# Altium schematic symbol library SnapEDAsch.SchLib: 1 symbol
Pins are listed as number, name and electrical type; pins without a type are passive.

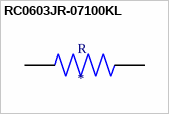
[diagram p0: symbol RC0603JR-07100KL]

## RC0603JR-07100KL
designator R
100 kOhms Â±5% 0.1W, 1/10W Chip Resistor 0603 _1608 Metric_ Moisture Resistant Thick Film; MF: Yageo; MP: RC0603JR-07100KL; Digi-Key_Purchase_URL: https://www.digikey.com.tr/product-detail/en/yageo/RC0603JR-07100KL/311-100KGRCT-ND/729645?utm_source=snapeda&utm_medium=aggregator&utm_campaign=symbol; Value: *; SnapEDA_Link: https://www.snapeda.com/parts/RC0603JR-07100KL/Yageo/view-part/106143/?ref=snap; Package: 0603 Yageo; Digi-Key_Part_Number: 311-100KGRCT-ND
pins: 1, 2